# Altium schematic symbol library Amphenol USB-A.SchLib: 1 symbol
Pins are listed as number, name and electrical type; pins without a type are passive.

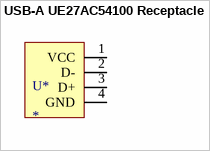
[diagram p0: symbol USB-A UE27AC54100 Receptacle]

## USB-A UE27AC54100 Receptacle
designator U*
footprint USB-A UE27AC54100 Receptacle
pins: 1 VCC, 2 D-, 3 D+, 4 GND